# Altium footprint library SOP65P640X120-14N.PcbLib: 1 footprints
Each footprint in its own frame and in the unit in brackets; x right, y up, seen from the top. Pads: shape width x height; smd on the part's side, far side on the other; paste and mask are expansions set on the pad; w line width, h text height; cw(c..) or ccw(c..) is an arc to the next point about the centre after c.
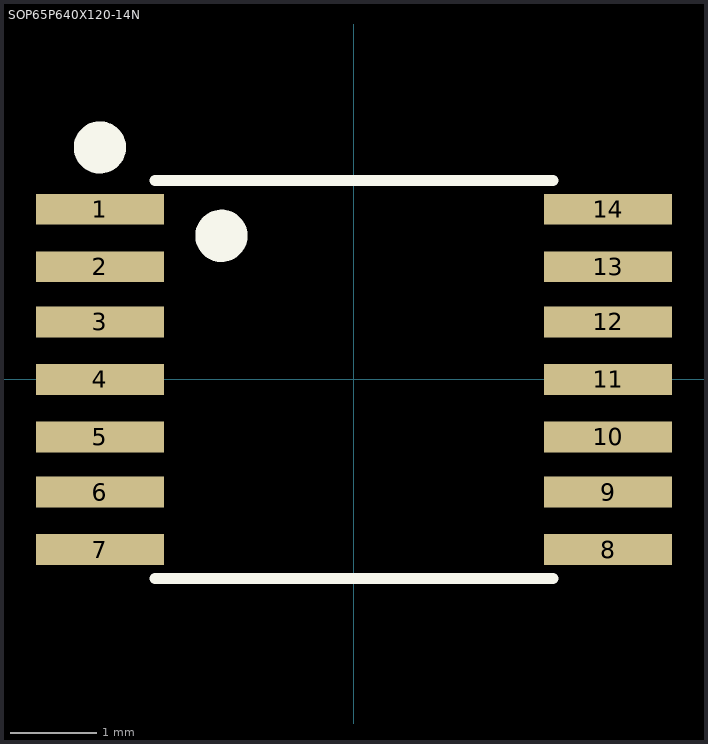
[diagram p0: the footprint, top view; thin cyan lines are the x and y axes]

## SOP65P640X120-14N [mil] "SOP + Pitch P + Lead Span Nominal X Height - #Pins"
height 47.24
pads (14):
  rect 58x14 smd: 1(-115,77) 2(-115,51) 3(-115,26) 4(-115,0) 5(-115,-26) 6(-115,-51) 7(-115,-77) 8(115,-77) 9(115,-51) 10(115,-26) 11(115,0) 12(115,26) 13(115,51) 14(115,77)
Top Overlay:
  circle w11.81: c-115,105 r5.91
  circle w11.81: c-60,65 r5.91
  lines w5: -90,-90 90,-90 ; -90,90 90,90
3D body "PW14.stp": height 47.09, standoff 0, extent -129.99,-100.5 130.01,100.52